# EAGLE library part 67329-8000 (library con-Molex)
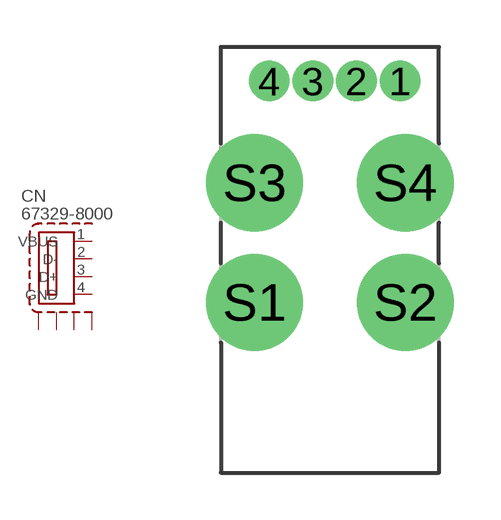
[diagram p7: symbol with the pads of 67329-8000; footprint 67329-8000]

Designator prefix CN

## 67329-8000  [67329-8000]
1  VBUS  pas
2  D-  pas
3  D+  pas
4  GND  pas
S1  S1  pas
S2  S2  pas
S3  S3  pas
S4  S4  pas

## Footprint 67329-8000 (pad centres in mm)
drill 0.8 pad 1.2: 1 2.1,0; 2 0.7,0; 3 -0.7,0; 4 -2.1,0
drill 2.1 pad 2.9: S1 -2.57,-7.11; S2 2.27,-7.11; S3 -2.57,-3.27; S4 2.27,-3.27